# Altium schematic symbol library AU0005.SCHLIB: 67 symbols (part 1 of 2)
Pins are listed as number, name and electrical type; pins without a type are passive.

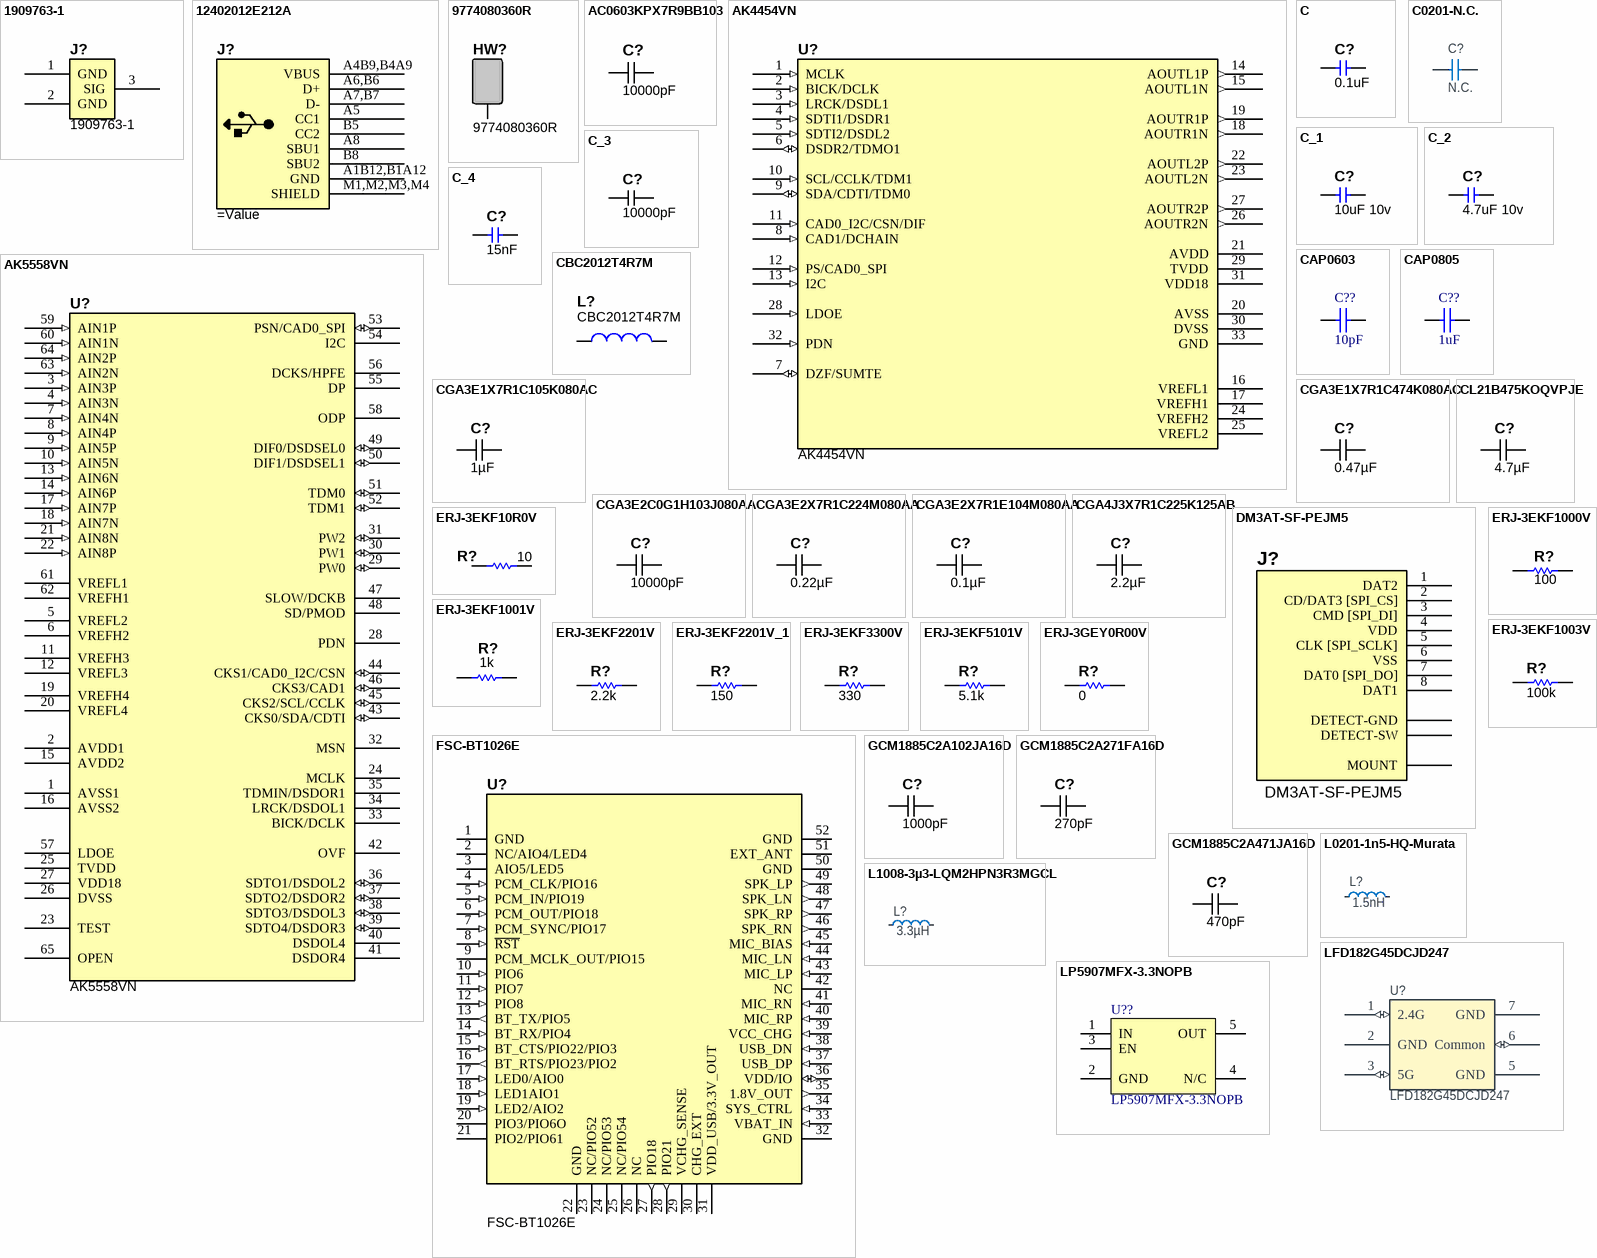
[diagram p0: symbols 1909763-1 to LP5907MFX-3.3NOPB]

## 1909763-1
designator J?
CONN UMCC JACK STR 50OHM SMD; Manufacturer: TE Connectivity AMP Connectors; Connector Style: Ultra Miniature Coaxial; Connector Type: Jack, Male Pin; Contact Termination: Solder; Body Material: Copper Alloy; Body Finish: Gold; Dielectric Material: Liquid Crystal Polymer (LCP); Voltage Rating: 60V; Mating Cycles: 30; Insertion Loss: 0.24dB; Value: 1909763-1; Supplier 1: Digi-Key; Supplier Part Number 1: A118077CT-ND; Manufacturer Part Number: 1909763-1; RoHS: RoHS Compliant; Category: Connectors, Interconnects; Stock 1: 75031; Pricing 1: 1=0.49, 10=0.462, 25=0.416, 50=0.3696, 100=0.3542, 250=0.3234, 500=0.308, 1000=0.2541, 2500=0.231 (USD); Packaging: Cut Tape (CT); Part Status: Active; Shield Termination: Solder; Impedance: 50 Ohm; Mounting Type: Surface Mount; Mounting Feature: -; Cable Group: -; Fastening Type: Snap-On; Features: -; Housing Color: Ivory; Ingress Protection: -; Includes: -; Center Contact Plating: Gold; Operating Temperature: -40°C ~ 90°C; Center Contact Material: Copper Alloy; ComponentLink1URL: http://www.te.com/commerce/DocumentDelivery/DDEController?Action=srchrtrv&DocNm=1909763&DocType=Customer+Drawing&DocLang=English; ComponentLink1Description: http://www.te.com/commerce/DocumentDelivery/DDEController?Action=srchrtrv&DocNm=1909763&DocType=Customer+Drawing&DocLang=English
footprint 1909763-1 (CONN UMCC JACK STR 50OHM SMD)
pins: 1 GND, 2 GND, 3 SIG

## 12402012E212A
designator J?
Manufacturer: Amphenol; Manufacturer Part Number: 12402012E212A; Supplier 1: Mouser; Supplier Part Number 1: 523-12402012E212A; RoHS: No; Category: Connectors; Stock 1: 6869; Pricing: 1=0.98000, 10=0.77400, 50=0.77400, 100=0.67300, 1000=0.53800, 10000=0.43700 (USD)
footprint 12402012E212A (USB-C  2.0)
pins: A1B12,B1A12 GND, A4B9,B4A9 VBUS, A5 CC1, A6,B6 D+, A7,B7 D-, A8 SBU1, B5 CC2, B8 SBU2, M1,M2,M3,M4 SHIELD

## 9774080360R
designator HW?
WURTH ELEKTRONIK   9774080360R   Standoff, Tin Plated, Steel, Round Female, M3, 8 mm, 8 mm; Manufacturer: Wurth Electronics; Threaded/Unthreaded: Threaded; Outside Diameter: 0.236inch; Value: 9774080360R; Manufacturer Part Number: 9774080360R; Supplier 1: Digi-Key; Supplier Part Number 1: 732-5275-1-ND; Stock 1: 7200; Pricing 1: 1=1.65, 10=1.523, 50=1.411, 100=1.21 (USD); Mount: External; Case/Package: SMD/SMT; Material: Steel; Plating: Tin; Length: 0.37inch; Thread Size: M3; Width: 6mm; REACH SVHC: Unknown; ComponentLink1URL: http://www.mouser.com/ds/2/445/9774080360R-336037.pdf; ComponentLink1Description: http://www.mouser.com/ds/2/445/9774080360R-336037.pdf; ComponentLink2URL: http://www.farnell.com/datasheets/1840152.pdf; ComponentLink2Description: http://www.farnell.com/datasheets/1840152.pdf; ComponentLink3URL: https://media.digikey.com/pdf/Data%20Sheets/Wurth%20Electronics%20PDFs/WA-SMSx_Performance_Flyer.pdf; ComponentLink3Description: https://media.digikey.com/pdf/Data%20Sheets/Wurth%20Electronics%20PDFs/WA-SMSx_Performance_Flyer.pdf
footprint 9774080360R (ROUND STANDOFF M3X0.5 STEEL 8MM)
footprint 9774080360R - NARROW (ROUND STANDOFF M3X0.5 STEEL 8MM)
pins: M

## AC0603KPX7R9BB103
designator C?, comment 10000pF
CAP CER 10000PF 50V X7R 0603; Manufacturer Part Number: AC0603KPX7R9BB103; Manufacturer: Yageo; Tolerance: ±10%; Substitution Notes: 10000pF , 50V , ±10% , X7R , -55°C ~ 125°C , AEC-Q200 , 0603; Value: 10000pF; Temperature Coefficient: X7R; ComponentLink1Description: Datasheet (Internal); ComponentLink1URL: datasheets\Yageo\yageo_ac.pdf; ComponentLink2Description: Datasheet (External); ComponentLink2URL: http://www.yageo.com/NewPortal/yageodocoutput?fileName=/pdf/MLCC/UPY-AC_NP0X7R_16V-to-630V_9.pdf; Supplier 1: Digikey; Supplier Part Number 1: 311-3284-1-ND; Category: Capacitors; Voltage - Rated: 50V; Operating Temperature: -55°C ~ 125°C; Ratings: AEC-Q200; Package: 0603; Thickness (Max): 0.90MM
footprint C0603_0.90MM_HD (Capacitor 0603 - High Density)
footprint C0603_0.90MM_MD
footprint C0603_0.90MM_LD
pins: 1, 2 1

## AK4454VN
designator U?
115dB 768kHz / 32-bit 8 ch Premium DAC; Manufactuer: AKM; Manufacturer Part Number: AK4454VN; Value: AK4454VN
footprint QFN32_AKM
pins: 1 MCLK (in), 2 BICK/DCLK (in), 3 LRCK/DSDL1 (in), 4 SDTI1/DSDR1 (in), 5 SDTI2/DSDL2 (in), 6 DSDR2/TDMO1 (io), 7 DZF/SUMTE (io), 8 CAD1/DCHAIN (in), 9 SDA/CDTI/TDM0 (io), 10 SCL/CCLK/TDM1 (in), 11 CAD0_I2C/CSN/DIF (in), 12 PS/CAD0_SPI (in), 13 I2C (in), 14 AOUTL1P (out), 15 AOUTL1N (out), 16 VREFL1 (power), 17 VREFH1 (power), 18 AOUTR1N (out), 19 AOUTR1P (out), 20 AVSS, 21 AVDD (power), 22 AOUTL2P (out), 23 AOUTL2N (out), 24 VREFH2 (power), 25 VREFL2 (power), 26 AOUTR2N (out), 27 AOUTR2P (out), 28 LDOE (in), 29 TVDD (power), 30 DVSS, 31 VDD18 (power), 32 PDN (in), 33 GND

## AK5558VN
designator U?
IC ADC, Audio 32 bit 768k DSD, PCM 64-QFN (9x9); Manufacturer: AKM/Asahi Kasei Microdevices; Manufacturer Part Number: AK5558VN; Type: DEV; Category: ADCs/DACs - Special Purpose; Supplier Device Package: 64-QFN (9x9); Mounting Type: Surface Mount
footprint AK5558VN (IC ADC, Audio 32 bit 768k DSD, PCM 64-QFN (9x9))
pins: 1 AVSS1, 2 AVDD1 (power), 3 AIN3P (in), 4 AIN3N (in), 5 VREFL2 (power), 6 VREFH2 (power), 7 AIN4N (in), 8 AIN4P (in), 9 AIN5P (in), 10 AIN5N (in), 11 VREFH3 (power), 12 VREFL3 (power), 13 AIN6N (in), 14 AIN6P (in), 15 AVDD2 (power), 16 AVSS2, 17 AIN7P (in), 18 AIN7N (in), 19 VREFH4 (power), 20 VREFL4 (power), 21 AIN8N (in), 22 AIN8P (in), 23 TEST, 24 MCLK, 25 TVDD (power), 26 DVSS, 27 VDD18 (power), 28 PDN, 29 PW0 (io), 30 PW1 (io), 31 PW2 (io), 32 MSN, 33 BICK/DCLK, 34 LRCK/DSDOL1, 35 TDMIN/DSDOR1, 36 SDTO1/DSDOL2 (io), 37 SDTO2/DSDOR2 (io), 38 SDTO3/DSDOL3 (io), 39 SDTO4/DSDOR3 (io), 40 DSDOL4, 41 DSDOR4, 42 OVF, 43 CKS0/SDA/CDTI (io), 44 CKS1/CAD0_I2C/CSN (io), 45 CKS2/SCL/CCLK (io), 46 CKS3/CAD1 (io), 47 SLOW/DCKB, 48 SD/PMOD, 49 DIF0/DSDSEL0 (io), 50 DIF1/DSDSEL1 (io), 51 TDM0 (io), 52 TDM1 (io), 53 PSN/CAD0_SPI (io), 54 I2C, 55 DP, 56 DCKS/HPFE, 57 LDOE, 58 ODP, 59 AIN1P (in), 60 AIN1N (in), 61 VREFL1 (power), 62 VREFH1 (power), 63 AIN2N (in), 64 AIN2P (in), 65 OPEN

## C
designator C?, comment 0.1uF
Substiution Notes: 0.1uFpF, 10V, 0603, AECQ-200; Value: 0.1uF; Manufacturer: *; Manufacturer Part Number: *
footprint PERFECT_0402 (https://www.worthingtonassembly.com/perfect-0402-footprint)
footprint C0603_0.50mm_MD (Capacitor 0603 - Medium Density)
pins: 1, 2

## C0201-N.C.
designator C?, comment N.C.
Not mounted; Part Number: C0201-N.C.; Manufacturer: N.A.; Part number NEMS: 100200001; Note: Chip Cap; Assembly: Not mounted; Pad Count: 2; Component Status: Active; Manufacturer Part Number: N.A.; LatestRevisionDate: 2014-11-13; Published: 2014-11-13; Value: N.C.; Artikkelnr Noca: N.A.; Footprint Doc: 0201; Part number IPS: N.A.; ComponentLink1URL: N.A.; ComponentLink1Description: Datasheet; ComponentLink2URL: N.A.; ComponentLink2Description: Supplier link; HelpURL: N.A.; Supplier 1: N.A.; Supplier Part Number 1: N.A.; Supplier 2: N.A.; Supplier Part Number 2: N.A.; Component Class: Capacitors; PartId: 100200001; Author: rsk; Part number Norautron: N.A.
footprint CAPC0603X03L_C_NC (Chip Capacitor, 2-Leads, Body 0.6x0.3mm, IPC High Density)
pins: 1, 2

## C_1
designator C?, comment 10uF 10v
Value: 10000pF; Manufacturer: *; Manufacturer Part Number: *; Substiution Notes: *
footprint PERFECT_0402 (https://www.worthingtonassembly.com/perfect-0402-footprint)
footprint C0603_0.50mm_MD (Capacitor 0603 - Medium Density)
footprint C0805_0.70MM_MD (Capacitor - 0805 - Medium Density)
pins: 1, 2

## C_2
designator C?, comment 4.7uF 10v
Value: 10000pF; Manufacturer: *; Manufacturer Part Number: *; Substiution Notes: *
footprint PERFECT_0402 (https://www.worthingtonassembly.com/perfect-0402-footprint)
footprint C0603_0.50mm_MD (Capacitor 0603 - Medium Density)
footprint C0805_0.70MM_MD (Capacitor - 0805 - Medium Density)
pins: 1, 2

## C_3
designator C?, comment 10000pF
Value: 10000pF; Manufacturer: *; Manufacturer Part Number: *; Substiution Notes: *
footprint PERFECT_0402 (https://www.worthingtonassembly.com/perfect-0402-footprint)
footprint C0603_0.50mm_MD (Capacitor 0603 - Medium Density)
footprint C0805_0.70MM_MD (Capacitor - 0805 - Medium Density)
pins: 1, 2

## C_4
designator C?, comment 15nF
Value: 0.1uF; Substiution Notes: 0.1uFpF, 10V, 0603, AECQ-200; Manufacturer: *; Manufacturer Part Number: *
footprint PERFECT_0402 (https://www.worthingtonassembly.com/perfect-0402-footprint)
footprint C0603_0.50mm_MD (Capacitor 0603 - Medium Density)
pins: 1, 2

## CAP0603
designator C??, comment Capacitance: 10pF  (hidden comment: CAP GENERIC 0603)
footprint CAPC1608X08N (Chip Capacitor, 2-Leads, Body 1.60x0.80mm, IPC Medium Density)
pins: 1, 2

## CAP0805
designator C??, comment Capacitance: 1uF  (hidden comment: CAP GENERIC 0805)
footprint CAPC2012X09N (Chip Capacitor, 2-Leads, Body 2.00x1.25mm, IPC Medium Density)
pins: 1, 2

## CBC2012T4R7M
designator L?
FIXED IND 4.7UH 520MA 650 MOHM; Manufacturer: Taiyo Yuden; Core Material: Ferrite; Tolerance: 20%; Self Resonant Frequency: 45MHz; DC Resistance (DCR): 650mR; Test Frequency: 7.96MHz; Saturation Current: 360mA; Shielding: Unshielded; Value: CBC2012T4R7M; Supplier 1: Digi-Key; Manufacturer Part Number: CBC2012T4R7M; Stock 1: 7720; Pricing 1: 1=0.24000, 10=0.21600, 100=0.14860, 500=0.12702, 1000=0.09729 (USD); RoHS: Yes; Mount: Surface Mount; Case/Package: 0805; Number of Pins: 2; Case Code (Metric): 2012; Case Code (Imperial): 0805; Min Operating Temperature: -40°C; Max Operating Temperature: 105°C; Packaging: Tape and Reel; Inductance: 4.7uH; Max DC Current: 520mA; Termination: SMD/SMT; Inductance Tolerance: 20%; Package Quantity: 3000; Current Rating: 520mA; Composition: Wirewound; Length: 0.079inch; Height: 1.25mm; Width: 0.049inch; Height - Seated (Max): 0.057inch; REACH SVHC: No SVHC; Lead Free: Exempt; Halogen Free: Halogen Free; ComponentLink1URL: https://datasheet.ciiva.com/15981/214cbc2012t4r7m-15981637.pdf?src-supplier=Onlinecomponents.com; ComponentLink1Description: https://datasheet.ciiva.com/15981/214cbc2012t4r7m-15981637.pdf?src-supplier=Onlinecomponents.com; ComponentLink2URL: https://datasheet.ciiva.com/1040/cbc2012t4r7m-ss-1040456.pdf?src-supplier=Digi-Key; ComponentLink2Description: https://datasheet.ciiva.com/1040/cbc2012t4r7m-ss-1040456.pdf?src-supplier=Digi-Key; ComponentLink3URL: https://datasheet.ciiva.com/8505/cbc2012t4r7m-ss-8505656.pdf?src-supplier=Avnet; ComponentLink3Description: https://datasheet.ciiva.com/8505/cbc2012t4r7m-ss-8505656.pdf?src-supplier=Avnet; ComponentLink4URL: https://datasheet.ciiva.com/8001/wound02-e-8001849.pdf?src-supplier=Element14; ComponentLink4Description: https://datasheet.ciiva.com/8001/wound02-e-8001849.pdf?src-supplier=Element14; Supplier Part Number 1: 587-1602-1-ND
footprint C0805_1.45MM_MD (Capacitor - 0805 - Medium Density)
pins: 1, 2

## CGA3E1X7R1C105K080AC
designator C?, comment 1µF
CAP CER 1UF 16V X7R 0603; Manufacturer Part Number: CGA3E1X7R1C105K080AC; Manufacturer: TDK Corporation; Tolerance: ±10%; Substitution Notes: 1µF , 16V , ±10% , X7R , -55°C ~ 125°C , AEC-Q200 , 0603; Value: 1µF; Temperature Coefficient: X7R; ComponentLink1Description: Datasheet (Internal); ComponentLink1URL: datasheets\TDK\mlcc_automotive_general_en.pdf; ComponentLink2Description: Datasheet (External); ComponentLink2URL: https://product.tdk.com/info/en/catalog/datasheets/mlcc_automotive_general_en.pdf; Supplier 1: Digikey; Supplier Part Number 1: 445-12539-1-ND; Category: Capacitors; Voltage - Rated: 16V; Features: -; Operating Temperature: -55°C ~ 125°C; Ratings: AEC-Q200; Package: 0603; Thickness (Max): 0.90MM
footprint C0603_0.90MM_MD
footprint C0603_0.90MM_HD
footprint C0603_0.90MM_LD
pins: 1, 2 1

## CGA3E1X7R1C474K080AC
designator C?, comment 0.47µF
CAP CER 0.47UF 16V X7R 0603; Manufacturer Part Number: CGA3E1X7R1C474K080AC; Manufacturer: TDK Corporation; Tolerance: ±10%; Substitution Notes: 0.47µF , 16V , ±10% , X7R , -55°C ~ 125°C , AEC-Q200 , 0603; Value: 0.47µF; Temperature Coefficient: X7R; ComponentLink1Description: Datasheet (Internal); ComponentLink1URL: datasheets\TDK\mlcc_automotive_general_en.pdf; ComponentLink2Description: Datasheet (External); ComponentLink2URL: https://product.tdk.com/info/en/catalog/datasheets/mlcc_automotive_general_en.pdf; Supplier 1: Digikey; Supplier Part Number 1: 445-5672-1-ND; Category: Capacitors; Voltage - Rated: 16V; Features: -; Operating Temperature: -55°C ~ 125°C; Ratings: AEC-Q200; Package: 0603; Thickness (Max): 0.90MM
footprint C0603_0.90MM_MD
footprint C0603_0.90MM_HD
footprint C0603_0.90MM_LD
pins: 1, 2 1

## CGA3E2C0G1H103J080AA
designator C?, comment 10000pF
CAP CER 10000PF 50V C0G 0603; Manufacturer Part Number: CGA3E2C0G1H103J080AA; Manufacturer: TDK Corporation; Temperature Coefficient: C0G, NP0; Tolerance: ±5%; Substitution Notes: 10000pF , 50V , ±5% , C0G, NP0 , -55°C ~ 125°C , AEC-Q200 , 0603; Value: 10000pF; ComponentLink1Description: Datasheet (Internal); ComponentLink1URL: datasheets\TDK\mlcc_automotive_general_en.pdf; ComponentLink2Description: Datasheet (External); ComponentLink2URL: https://product.tdk.com/info/en/catalog/datasheets/mlcc_automotive_general_en.pdf; Supplier 1: Digikey; Supplier Part Number 1: 445-6916-1-ND; Category: Capacitors; Voltage - Rated: 50V; Features: -; Operating Temperature: -55°C ~ 125°C; Ratings: AEC-Q200; Package: 0603; Thickness (Max): 0.90MM
footprint C0603_0.90MM_MD
footprint C0603_0.90MM_HD
footprint C0603_0.90MM_LD
pins: 1, 2 1

## CGA3E2X7R1C224M080AA
designator C?, comment 0.22µF
CAP CER 0.22UF 16V X7R 0603; Manufacturer Part Number: CGA3E2X7R1C224M080AA; Manufacturer: TDK Corporation; Tolerance: ±20%; Substitution Notes: 0.22µF , 16V , ±20% , X7R , -55°C ~ 125°C , AEC-Q200 , 0603; Value: 0.22µF; Temperature Coefficient: X7R; ComponentLink1Description: Datasheet (Internal); ComponentLink1URL: datasheets\TDK\mlcc_automotive_general_en.pdf; ComponentLink2Description: Datasheet (External); ComponentLink2URL: https://product.tdk.com/info/en/catalog/datasheets/mlcc_automotive_general_en.pdf; Supplier 1: Digikey; Supplier Part Number 1: 445-12535-1-ND; Category: Capacitors; Voltage - Rated: 16V; Features: -; Operating Temperature: -55°C ~ 125°C; Ratings: AEC-Q200; Package: 0603; Thickness (Max): 0.90MM
footprint C0603_0.90MM_MD
footprint C0603_0.90MM_HD
footprint C0603_0.90MM_LD
pins: 1, 2 1

## CGA3E2X7R1E104M080AA
designator C?, comment 0.1µF
CAP CER 0.1UF 25V X7R 0603; Manufacturer Part Number: CGA3E2X7R1E104M080AA; Manufacturer: TDK Corporation; Tolerance: ±20%; Substitution Notes: 0.1µF , 25V , ±20% , X7R , -55°C ~ 125°C , AEC-Q200 , 0603; Value: 0.1µF; Temperature Coefficient: X7R; ComponentLink1Description: Datasheet (Internal); ComponentLink1URL: datasheets\TDK\mlcc_automotive_general_en.pdf; ComponentLink2Description: Datasheet (External); ComponentLink2URL: https://product.tdk.com/info/en/catalog/datasheets/mlcc_automotive_general_en.pdf; Supplier 1: Digikey; Supplier Part Number 1: 445-12541-1-ND; Category: Capacitors; Voltage - Rated: 25V; Features: -; Operating Temperature: -55°C ~ 125°C; Ratings: AEC-Q200; Package: 0603; Thickness (Max): 0.90MM
footprint C0603_0.90MM_MD
footprint C0603_0.90MM_HD
footprint C0603_0.90MM_LD
pins: 1, 2 1

## CGA4J3X7R1C225K125AB
designator C?, comment 2.2µF
CAP CER 2.2UF 16V X7R 0805; Manufacturer Part Number: CGA4J3X7R1C225K125AB; Manufacturer: TDK Corporation; Tolerance: ±10%; Substitution Notes: 2.2µF , 16V , ±10% , X7R , -55°C ~ 125°C , AEC-Q200 , 0805; Value: 2.2µF; Temperature Coefficient: X7R; ComponentLink1Description: Datasheet (Internal); ComponentLink1URL: datasheets\TDK\mlcc_automotive_general_en.pdf; ComponentLink2Description: Datasheet (External); ComponentLink2URL: https://product.tdk.com/info/en/catalog/datasheets/mlcc_automotive_general_en.pdf; Supplier 1: Digikey; Supplier Part Number 1: 445-5691-1-ND; Category: Capacitors; Voltage - Rated: 16V; Features: -; Operating Temperature: -55°C ~ 125°C; Ratings: AEC-Q200; Package: 0805; Thickness (Max): 1.45MM
footprint C0805_1.45MM_MD
footprint C0805_1.45MM_HD
footprint C0805_1.45MM_LD
pins: 1, 2 1

## CL21B475KOQVPJE
designator C?, comment 4.7µF
CAP CER 4.7UF 16V X7R 0805; Manufacturer Part Number: CL21B475KOQVPJE; Manufacturer: Samsung Electro-Mechanics; Tolerance: ±10%; Substitution Notes: 4.7µF , 16V , -55°C ~ 125°C , X7R  , AEC-Q200 , 0805; Value: 4.7µF; Temperature Coefficient: X7R; ComponentLink1Description: Datasheet (Internal); ComponentLink1URL: datasheets\Samsung\CL05B153KB5VPNC.pdf.pdf; ComponentLink2Description: Datasheet (External); ComponentLink2URL: http://www.samsungsem.com/kr/support/product-search/mlcc/__icsFiles/afieldfile/2017/05/25/CL05B153KB5VPNC.pdf; Supplier 1: Digikey; Supplier Part Number 1: 1276-6793-1-ND; Category: Capacitors; Voltage - Rated: 16V; Features: -; Operating Temperature: -55°C ~ 125°C; Ratings: AEC-Q200; Package: 0805; Thickness (Max): 0.95MM
footprint C0805_0.95MM_MD
footprint C0805_0.95MM_HD
footprint C0805_0.95MM_LD
pins: 1, 2 1

## DM3AT-SF-PEJM5
designator J?
CONN MICRO SD R/A PUSH-PUSH SMD; Manufacturer: Hirose Electric Co Ltd; Card Type: Secure Digital - microSD™; Number of Positions: 10 (8 + 2); Connector Type: Connector and Ejector; Insertion, Removal Method: Push In, Push Out; Supplier 1: Digi-Key; Supplier Part Number 1: HR1964CT-ND; Manufacturer Part Number: DM3AT-SF-PEJM5; RoHS: RoHS Compliant; Category: Connectors, Interconnects; Stock: 28699; Pricing: 1=2.83, 10=2.72, 25=2.4932, 50=2.3798, 100=2.2664, 250=1.98312, 500=1.92648 (USD); Packaging: Cut Tape (CT); Ejector Side: -; Mounting Type: Surface Mount, Right Angle; Features: Switch; Height Above Board: 0.066" (1.68mm); Mounting Feature: Normal, Standard - Top; Contact Finish: Gold; Contact Finish Thickness: -; ComponentLink1URL: http://www.hirose.co.jp/cataloge_hp/e60900232.pdf; ComponentLink1Description: http://www.hirose.co.jp/cataloge_hp/e60900232.pdf; Value: DM3AT-SF-PEJM5
footprint DM3AT-SF-PEJM5 (Hirose DM3AT-SF-PEJM5 uSD connector - Normal Mount)
pins: 1 DAT2, 2 CD/DAT3 [SPI_CS], 3 CMD [SPI_DI], 4 VDD, 5 CLK [SPI_SCLK], 6 VSS, 7 DAT0 [SPI_DO], 8 DAT1, CDA DETECT-GND, CDB DETECT-SW, M MOUNT
1 alternate drawing of the same symbol

## ERJ-3EKF10R0V
designator R?, comment 10
RES 10 OHM 1/10W 1% 0603 SMD; Manufacturer Part Number: ERJ-3EKF10R0V; Manufacturer: Panasonic Electronic Components; Package Power: 0603  (0.1W); Power (Watts): 0.1W- 1/10W; Temperature Coefficient: ±100ppm/°C; Limiting Element Voltage: 75; Maximum Overload Voltage: 150; Maximum Working Voltage: 1.0V; Substitution Notes: 10 , ±1% , 0603 , AEC-Q200; Value: 10; ComponentLink1Description: Internal Datasheet; ComponentLink1URL: datasheets\Panasonic Electronic Components\AOA0000CE2.pdf; ComponentLink2Description: External Datasheet; ComponentLink2URL: http://industrial.panasonic.com/www-data/pdf/AOA0000/AOA0000CE2.pdf; Supplier 1: Digi-Key; Supplier Part Number 1: P10.0HCT-ND; Category: Resistors; Resistance (Ohms): 10; Composition: Thick Film; Features: -; Tolerance: ±1%; Package: 0603 (1608 Metric); Supplier Package: 0603; Size / Dimension: 0.063" L x 0.031" W (1.60mm x 0.80mm); Height: 0.55MM; Number of Terminations: 2; Packaging: Cut Tape (CT); Sort Value: 10; Sort Value Package: 603_10; Ratings: AEC-Q200
footprint R0603_0.55MM_MD
footprint R0603_0.55MM_HD
footprint R0603_0.55MM_LD
pins: 1, 2

## ERJ-3EKF1000V
designator R?, comment 100
RES 100 OHM 1/10W 1% 0603 SMD; Manufacturer Part Number: ERJ-3EKF1000V; Manufacturer: Panasonic Electronic Components; Package Power: 0603  (0.1W); Power (Watts): 0.1W- 1/10W; Temperature Coefficient: ±100ppm/°C; Limiting Element Voltage: 75; Maximum Overload Voltage: 150; Maximum Working Voltage: 3.2V; Substitution Notes: 100 , ±1% , 0603 , AEC-Q200; Value: 100; ComponentLink1Description: Internal Datasheet; ComponentLink1URL: datasheets\Panasonic Electronic Components\AOA0000CE2.pdf; ComponentLink2Description: External Datasheet; ComponentLink2URL: http://industrial.panasonic.com/www-data/pdf/AOA0000/AOA0000CE2.pdf; Supplier 1: Digi-Key; Supplier Part Number 1: P100HCT-ND; Category: Resistors; Resistance (Ohms): 100; Composition: Thick Film; Features: -; Tolerance: ±1%; Package: 0603 (1608 Metric); Supplier Package: 0603; Size / Dimension: 0.063" L x 0.031" W (1.60mm x 0.80mm); Height: 0.55MM; Number of Terminations: 2; Packaging: Cut Tape (CT); Sort Value: 100; Sort Value Package: 603_100; Ratings: AEC-Q200
footprint R0603_0.55MM_MD
footprint R0603_0.55MM_HD
footprint R0603_0.55MM_LD
pins: 1, 2

## ERJ-3EKF1001V
designator R?, comment 1k
RES 1K OHM 1/10W 1% 0603 SMD; Manufacturer Part Number: ERJ-3EKF1001V; Manufacturer: Panasonic Electronic Components; Package Power: 0603  (0.1W); Power (Watts): 0.1W- 1/10W; Temperature Coefficient: ±100ppm/°C; Limiting Element Voltage: 75; Maximum Overload Voltage: 150; Maximum Working Voltage: 10.0V; Substitution Notes: 1k , ±1% , 0603 , AEC-Q200; Value: 1k; ComponentLink1Description: Internal Datasheet; ComponentLink1URL: datasheets\Panasonic Electronic Components\AOA0000CE2.pdf; ComponentLink2Description: External Datasheet; ComponentLink2URL: http://industrial.panasonic.com/www-data/pdf/AOA0000/AOA0000CE2.pdf; Supplier 1: Digi-Key; Supplier Part Number 1: P1.00KHCT-ND; Category: Resistors; Resistance (Ohms): 1k; Composition: Thick Film; Features: -; Tolerance: ±1%; Package: 0603 (1608 Metric); Supplier Package: 0603; Size / Dimension: 0.063" L x 0.031" W (1.60mm x 0.80mm); Height: 0.55MM; Number of Terminations: 2; Packaging: Cut Tape (CT); Sort Value: 1000; Sort Value Package: 603_1000; Ratings: AEC-Q200
footprint R0603_0.55MM_MD
footprint R0603_0.55MM_HD
footprint R0603_0.55MM_LD
pins: 1, 2

## ERJ-3EKF1003V
designator R?, comment 100k
RES 100K OHM 1/10W 1% 0603 SMD; Manufacturer Part Number: ERJ-3EKF1003V; Manufacturer: Panasonic Electronic Components; Package Power: 0603  (0.1W); Power (Watts): 0.1W- 1/10W; Temperature Coefficient: ±100ppm/°C; Limiting Element Voltage: 75; Maximum Overload Voltage: 150; Maximum Working Voltage: 75.0V; Substitution Notes: 100k , ±1% , 0603 , AEC-Q200; Value: 100k; ComponentLink1Description: Internal Datasheet; ComponentLink1URL: datasheets\Panasonic Electronic Components\AOA0000CE2.pdf; ComponentLink2Description: External Datasheet; ComponentLink2URL: http://industrial.panasonic.com/www-data/pdf/AOA0000/AOA0000CE2.pdf; Supplier 1: Digi-Key; Supplier Part Number 1: P100KHCT-ND; Category: Resistors; Resistance (Ohms): 100k; Composition: Thick Film; Features: -; Tolerance: ±1%; Package: 0603 (1608 Metric); Supplier Package: 0603; Size / Dimension: 0.063" L x 0.031" W (1.60mm x 0.80mm); Height: 0.55MM; Number of Terminations: 2; Packaging: Cut Tape (CT); Sort Value: 100000; Sort Value Package: 603_100000; Ratings: AEC-Q200
footprint R0603_0.55MM_MD
footprint R0603_0.55MM_HD
footprint R0603_0.55MM_LD
pins: 1, 2

## ERJ-3EKF2201V
designator R?, comment 2.2k
RES 2.2K OHM 1/10W 1% 0603 SMD; Manufacturer Part Number: ERJ-3EKF2201V; Manufacturer: Panasonic Electronic Components; Package Power: 0603  (0.1W); Power (Watts): 0.1W- 1/10W; Temperature Coefficient: ±100ppm/°C; Limiting Element Voltage: 75; Maximum Overload Voltage: 150; Maximum Working Voltage: 14.8V; Substitution Notes: 2.2k , ±1% , 0603 , AEC-Q200; Value: 2.2k; ComponentLink1Description: Internal Datasheet; ComponentLink1URL: datasheets\Panasonic Electronic Components\AOA0000CE2.pdf; ComponentLink2Description: External Datasheet; ComponentLink2URL: http://industrial.panasonic.com/www-data/pdf/AOA0000/AOA0000CE2.pdf; Supplier 1: Digi-Key; Supplier Part Number 1: P2.20KHCT-ND; Category: Resistors; Resistance (Ohms): 2.2k; Composition: Thick Film; Features: -; Tolerance: ±1%; Package: 0603 (1608 Metric); Supplier Package: 0603; Size / Dimension: 0.063" L x 0.031" W (1.60mm x 0.80mm); Height: 0.55MM; Number of Terminations: 2; Packaging: Cut Tape (CT); Sort Value: 2200; Sort Value Package: 603_2200; Ratings: AEC-Q200
footprint R0603_0.55MM_MD
footprint R0603_0.55MM_HD
footprint R0603_0.55MM_LD
pins: 1, 2

## ERJ-3EKF2201V_1
designator R?, comment 150
RES 2.2K OHM 1/10W 1% 0603 SMD; Manufacturer Part Number: ERJ-3EKF2201V; Manufacturer: Panasonic Electronic Components; Package Power: 0603  (0.1W); Power (Watts): 0.1W- 1/10W; Temperature Coefficient: ±100ppm/°C; Limiting Element Voltage: 75; Maximum Working Voltage: 14.8V; Substitution Notes: 2.2k , ±1% , 0603 , AEC-Q200; Value: 2.2k; ComponentLink1Description: Internal Datasheet; ComponentLink1URL: datasheets\Panasonic Electronic Components\AOA0000CE2.pdf; ComponentLink2Description: External Datasheet; ComponentLink2URL: http://industrial.panasonic.com/www-data/pdf/AOA0000/AOA0000CE2.pdf; Supplier 1: Digi-Key; Supplier Part Number 1: P2.20KHCT-ND; Category: Resistors; Resistance (Ohms): 2.2k; Composition: Thick Film; Features: -; Tolerance: ±1%; Package: 0603 (1608 Metric); Supplier Package: 0603; Size / Dimension: 0.063" L x 0.031" W (1.60mm x 0.80mm); Height: 0.55MM; Number of Terminations: 2; Packaging: Cut Tape (CT); Sort Value: 2200; Sort Value Package: 603_2200; Maximum Overload Voltage: 150; Ratings: AEC-Q200
footprint R0603_0.55MM_MD
footprint R0603_0.55MM_HD
footprint R0603_0.55MM_LD
pins: 1, 2

## ERJ-3EKF3300V
designator R?, comment 330
RES 330 OHM 1/10W 1% 0603 SMD; Manufacturer Part Number: ERJ-3EKF3300V; Manufacturer: Panasonic Electronic Components; Package Power: 0603  (0.1W); Power (Watts): 0.1W- 1/10W; Temperature Coefficient: ±100ppm/°C; Limiting Element Voltage: 75; Maximum Overload Voltage: 150; Maximum Working Voltage: 5.7V; Substitution Notes: 330 , ±1% , 0603 , AEC-Q200; Value: 330; ComponentLink1Description: Internal Datasheet; ComponentLink1URL: datasheets\Panasonic Electronic Components\AOA0000CE2.pdf; ComponentLink2Description: External Datasheet; ComponentLink2URL: http://industrial.panasonic.com/www-data/pdf/AOA0000/AOA0000CE2.pdf; Supplier 1: Digi-Key; Supplier Part Number 1: P330HCT-ND; Category: Resistors; Resistance (Ohms): 330; Composition: Thick Film; Features: -; Tolerance: ±1%; Package: 0603 (1608 Metric); Supplier Package: 0603; Size / Dimension: 0.063" L x 0.031" W (1.60mm x 0.80mm); Height: 0.55MM; Number of Terminations: 2; Packaging: Cut Tape (CT); Sort Value: 330; Sort Value Package: 603_330; Ratings: AEC-Q200
footprint R0603_0.55MM_MD
footprint R0603_0.55MM_HD
footprint R0603_0.55MM_LD
pins: 1, 2

## ERJ-3EKF5101V
designator R?, comment 5.1k
RES 5.1K OHM 1/10W 1% 0603 SMD; Manufacturer Part Number: ERJ-3EKF5101V; Manufacturer: Panasonic Electronic Components; Package Power: 0603  (0.1W); Power (Watts): 0.1W- 1/10W; Temperature Coefficient: ±100ppm/°C; Limiting Element Voltage: 75; Maximum Overload Voltage: 150; Maximum Working Voltage: 22.6V; Substitution Notes: 5.1k , ±1% , 0603 , AEC-Q200; Value: 5.1k; ComponentLink1Description: Internal Datasheet; ComponentLink1URL: datasheets\Panasonic Electronic Components\AOA0000CE2.pdf; ComponentLink2Description: External Datasheet; ComponentLink2URL: http://industrial.panasonic.com/www-data/pdf/AOA0000/AOA0000CE2.pdf; Supplier 1: Digi-Key; Supplier Part Number 1: P5.10KHCT-ND; Category: Resistors; Resistance (Ohms): 5.1k; Composition: Thick Film; Features: -; Tolerance: ±1%; Package: 0603 (1608 Metric); Supplier Package: 0603; Size / Dimension: 0.063" L x 0.031" W (1.60mm x 0.80mm); Height: 0.55MM; Number of Terminations: 2; Packaging: Cut Tape (CT); Sort Value: 5100; Sort Value Package: 603_5100; Ratings: AEC-Q200
footprint R0603_0.55MM_MD
footprint R0603_0.55MM_HD
footprint R0603_0.55MM_LD
pins: 1, 2

## ERJ-3GEY0R00V
designator R?, comment 0
RES 0.0 OHM 1/10W JUMP 0603 SMD; Manufacturer Part Number: ERJ-3GEY0R00V; Manufacturer: Panasonic Electronic Components; Package Power: 0603  (0.1W); Power (Watts): 0.1W- 1/10W; Tolerance: Jumper; Limiting Element Voltage: 75; Maximum Overload Voltage: 150; Maximum Working Voltage: 0.0V; Substitution Notes: 0 , Jumper , 0603 , AEC-Q200; Value: 0; ComponentLink1Description: Internal Datasheet; ComponentLink1URL: datasheets\Panasonic Electronic Components\AOA0000CE1.pdf; ComponentLink2Description: External Datasheet; ComponentLink2URL: http://industrial.panasonic.com/www-data/pdf/AOA0000/AOA0000CE1.pdf; Supplier 1: Digi-Key; Supplier Part Number 1: P0.0GCT-ND; Category: Resistors; Resistance (Ohms): 0; Composition: Thick Film; Features: -; Temperature Coefficient: -; Package: 0603 (1608 Metric); Supplier Package: 0603; Size / Dimension: 0.063" L x 0.031" W (1.60mm x 0.80mm); Height: 0.55MM; Number of Terminations: 2; Sort Value: 0; Sort Value Package: 603_0; Ratings: AEC-Q200
footprint R0603_0.55MM_MD
footprint R0603_0.55MM_HD
footprint R0603_0.55MM_LD
pins: 1, 2

## FSC-BT1026E
designator U?
Bluetooth 5.1 dual mode audio module; Manufacturer: FEASYCOM; Check_prices: https://www.feasycom.com/qcc3024-bluetooth-stero-audio-module; Website Link: https://www.feasycom.com/qcc3024-bluetooth-stero-audio-module; Price: https://www.feasycom.com/qcc3024-bluetooth-stero-audio-module; Availability: In Stock; Value: FSC-BT1026E; Purchase-URL: https://www.feasycom.com/qcc3024-bluetooth-stero-audio-module; Package: QCC3024; Manufacturer Part Number: FSC-BT1026E
footprint FSC-BT1026x
pins: 1 GND (power), 2 NC/AIO4/LED4 (power), 3 AIO5/LED5 (power), 4 PCM_CLK/PIO16 (in), 5 PCM_IN/PIO19 (in), 6 PCM_OUT/PIO18 (in), 7 PCM_SYNC/PIO17 (in), 8 ~{RST} (in), 9 PCM_MCLK_OUT/PIO15 (power), 10 PIO6 (in), 11 PIO7 (in), 12 PIO8 (in), 13 BT_TX/PIO5 (out), 14 BT_RX/PIO4 (in), 15 BT_CTS/PIO22/PIO3 (in), 16 BT_RTS/PIO23/PIO2 (out), 17 LED0/AIO0 (in), 18 LED1AIO1 (in), 19 LED2/AIO2 (in), 20 PIO3/PIO6O (power), 21 PIO2/PIO61 (power), 22 GND (power), 23 NC/PIO52 (power), 24 NC/PIO53 (power), 25 NC/PIO54 (power), 26 NC (power), 27 PIO18 (out), 28 PIO21 (out), 29 VCHG_SENSE (power), 30 CHG_EXT (power), 31 VDD_USB/3.3V_OUT (power), 32 GND (power), 33 VBAT_IN (in), 34 SYS_CTRL (in), 35 1.8V_OUT (out), 36 VDD/IO (io), 37 USB_DP (in), 38 USB_DN (in), 39 VCC_CHG (in), 40 MIC_RP (in), 41 MIC_RN (in), 42 NC (power), 43 MIC_LP (in), 44 MIC_LN (in), 45 MIC_BIAS (in), 46 SPK_RN (out), 47 SPK_RP (out), 48 SPK_LN (out), 49 SPK_LP (out), 50 GND (power), 51 EXT_ANT (power), 52 GND (power)

## GCM1885C2A102JA16D
designator C?, comment 1000pF
CAP CER 1000PF 100V C0G/NP0 0603; Manufacturer Part Number: GCM1885C2A102JA16D; Manufacturer: Murata Electronics; Temperature Coefficient: C0G, NP0; Tolerance: ±5%; Substitution Notes: 1000pF , 100V , ±5% , C0G, NP0 , -55°C ~ 125°C , AEC-Q200 , 0603; Value: 1000pF; ComponentLink1Description: Datasheet (Internal); ComponentLink1URL: https://psearch.en.murata.com/capacitor/product/GCM1885C2A102JA16%23.pdf; ComponentLink2Description: Datasheet (External); ComponentLink2URL: https://psearch.en.murata.com/capacitor/product/GCM1885C2A102JA16%23.pdf; Supplier 1: Digikey; Supplier Part Number 1: 490-4772-1-ND; Category: Capacitors; Voltage - Rated: 100V; Operating Temperature: -55°C ~ 125°C; Ratings: AEC-Q200; Package: 0603; Thickness (Max): 0.90MM
footprint C0603_0.90MM_MD
footprint C0603_0.90MM_HD
footprint C0603_0.90MM_LD
pins: 1, 2 1

## GCM1885C2A271FA16D
designator C?, comment 270pF
CAP CER 270PF 100V C0G/NP0 0603; Manufacturer Part Number: GCM1885C2A271FA16D; Manufacturer: Murata Electronics; Temperature Coefficient: C0G, NP0; Tolerance: ±1%; Substitution Notes: 270pF , 100V , ±1% , C0G, NP0 , -55°C ~ 125°C , AEC-Q200 , 0603; Value: 270pF; ComponentLink1Description: Datasheet (Internal); ComponentLink1URL: https://search.murata.co.jp/Ceramy/image/img/A01X/G101/ENG/GCM1885C2A271FA16-01.pdf; ComponentLink2Description: Datasheet (External); ComponentLink2URL: https://search.murata.co.jp/Ceramy/image/img/A01X/G101/ENG/GCM1885C2A271FA16-01.pdf; Supplier 1: Digikey; Supplier Part Number 1: 490-16410-1-ND; Category: Capacitors; Voltage - Rated: 100V; Operating Temperature: -55°C ~ 125°C; Ratings: AEC-Q200; Package: 0603; Thickness (Max): 0.90MM
footprint C0603_0.90MM_MD
footprint C0603_0.90MM_HD
footprint C0603_0.90MM_LD
pins: 1, 2 1

## GCM1885C2A471JA16D
designator C?, comment 470pF
CAP CER 470PF 100V C0G/NP0 0603; Manufacturer Part Number: GCM1885C2A471JA16D; Manufacturer: Murata Electronics; Temperature Coefficient: C0G, NP0; Tolerance: ±5%; Substitution Notes: 470pF , 100V , ±5% , C0G, NP0 , -55°C ~ 125°C , AEC-Q200 , 0603; Value: 470pF; ComponentLink1Description: Datasheet (Internal); ComponentLink1URL: https://www.murata.com/~/media/webrenewal/support/library/catalog/products/capacitor/mlcc/c03e.ashx?la=en-us; ComponentLink2Description: Datasheet (External); ComponentLink2URL: https://www.murata.com/~/media/webrenewal/support/library/catalog/products/capacitor/mlcc/c03e.ashx?la=en-us; Supplier 1: Digikey; Supplier Part Number 1: 490-4949-1-ND; Category: Capacitors; Voltage - Rated: 100V; Operating Temperature: -55°C ~ 125°C; Ratings: AEC-Q200; Package: 0603; Thickness (Max): 0.90MM
footprint C0603_0.90MM_MD
footprint C0603_0.90MM_HD
footprint C0603_0.90MM_LD
pins: 1, 2 1

## L0201-1n5-HQ-Murata
designator L?, comment 1.5nH
Inductor, 1000mA, ±0.1ｎH, 50mOhm; Part Number: L0201-1n5-HQ-Murata; Manufacturer: Murata; Manufacturer Part Number: LQP03HQ1N5B02; Part number NEMS: 100300202; Pad Count: 2; Note: -55°C ~ 125°C; Artikkelnr Noca: N.A.; Component Status: Active; PartId: 100300202; Component Class: Inductors; Author: rsk; ComponentLink1URL: https://search.murata.co.jp/Ceramy/image/img/P02/JELF243C-0021.pdf; ComponentLink1Description: Datasheet; ComponentLink2URL: N.A.; ComponentLink2Description: Supplier link; HelpURL: https://psearch.en.murata.com/inductor/product/LQP03HQ1N5B02%23.html; Footprint Doc: 0201; LatestRevisionDate: 2018-10-23; Published: 2018-10-23; Value: 1.5nH; Supplier 1: Digi-Key; Supplier Part Number 1: 490-13881-1-ND; Supplier 2: N.A.; Supplier Part Number 2: N.A.; Part number IPS: N.A.; Part number Norautron: N.A.
footprint INDC0603X03L_C (Chip Inductor, 2-Leads, Body 0.6x0.3mm, IPC High Density)
pins: 1, 2

## L1008-3µ3-LQM2HPN3R3MGCL
designator L?, comment 3.3µH
Inductor, 1A, ±20%, 200mOhm; Part Number: L1008-3µ3-LQM2HPN3R3MGCL; Manufacturer: Murata; Manufacturer Part Number: LQM2HPN3R3MGCL; Part number NEMS: 100300406; Pad Count: 2; Note: -55°C ~ 125°C; Artikkelnr Noca: N.A.; Component Status: Active; PartId: 100300406; Component Class: Inductors; Author: prbu; ComponentLink1URL: https://www.murata.com/en-sg/products/productdetail?partno=LQM2HPN3R3MGC%23; ComponentLink1Description: Datasheet; ComponentLink2URL: https://www.digikey.com/en/products/detail/murata-electronics/LQM2HPN3R3MGCL/4359129?s=N4IgTCBcDaIDIEUCyYASAFAcgZgEraQHEBhOEAXQF8g; ComponentLink2Description: Supplier link; HelpURL: https://www.murata.com/en-sg/products/productdetail?partno=LQM2HPN3R3MGC%23; Footprint Doc: 1008; LatestRevisionDate: 2022-01-20; Published: 2022-01-20; Value: 3.3µH; Supplier 1: Digi-Key; Supplier Part Number 1: 490-12070-1-ND; Supplier 2: N.A.; Supplier Part Number 2: N.A.; Part number IPS: N.A.; Part number Norautron: N.A.
footprint INDC2520X10N (Chip Inductor, 2-Leads, Body 2,50x2,00mm, IPC Medium Density)
pins: 1, 2

## LFD182G45DCJD247
designator U?, comment value LFD182G45DCJD247  (hidden comment: LFD_Diplexer)
Signal Conditioning 2.4GHz and 5GHz Diplexer; Manufacturer: Murata; Part number NEMS: 100800026; Pad Count: 6; Note: N.A.; Component Status: Active; Part Number: LFD182G45DCJD247; Component Class: Filters; Author: hany; Manufacturer Part Number: LFD182G45DCJD247; ComponentLink1URL: https://no.mouser.com/datasheet/2/281/1/LFD182G45DCJD247-2399435.pdf; ComponentLink1Description: Datasheet; ComponentLink2URL: N.A.; ComponentLink2Description: Supplier link; HelpURL: N.A.; Footprint Doc: CAF; LatestRevisionDate: 2021-10-06; Published: 2021-10-06; Supplier 1: Mouser; Supplier Part Number 1: 81-LFD182G45DCJD247; Supplier 2: N.A.; Supplier Part Number 2: N.A.; Artikkelnr Noca: N.A.; Part number IPS: N.A.; Part number Norautron: N.A.; PartId: 100800026
footprint CAF-50P160X80-6N (Chip Array, Flat, 6-Leads, Pitch 0,50mm,  Body 1,60x0,80mm,  IPC Medium Density)
pins: 1 2.4G (io), 2 GND (power), 3 5G (io), 5 GND (power), 6 Common (io), 7 GND (power)

## LP5907MFX-3.3NOPB
designator U??
IC REG LDO 3.3V 0.25A SOT23-5; Manufacturer: Texas Instruments; Manufacturer Part Number: LP5907MFX-3.3/NOPB; Number of Outputs: 1; Min Input Voltage: 2.2V; Max Supply Voltage: 5.5V; Max Output current: 250mA; Dropout Voltage: 250mV; Polarity: Positive; Quiescent Current: 25uA; Accuracy: 2%; Power Supply Rejection Ratio (PSRR): 60dB; Output Type: Fixed; Max Supply Current: 425uA; Supplier: Mouser; Supplier Part Number: 595-LP5907MFX-3.3NPB; RoHS: Yes; Category: Voltage Regulators - Linear; Stock: 178045; Pricing: 1=0.70000, 10=0.59300, 50=0.55300, 100=0.41100, 500=0.34800, 1000=0.26900, 3000=0.24400, 10000=0.24400 (USD); Mounting Technology: Surface Mount; Case/Package: SOT-23-5; Pins: 5; Contact Plating: Tin; Min Operating Temperature: -40°C; Max Operating Temperature: 125°C; Output Voltage: 3.3V; Packaging: Tape and Reel; Output Current: 250mA; Package Quantity: 3000; Number of Regulators: 1; Nominal Output Voltage: 3.3V; Output Voltage Accuracy: 2%; Series: -; Output Configuration: Positive; Radiation Hardening: No; Reach SVHC Compliant: Yes; Lead Free: Lead Free; RoHS Compliant: Yes; ComponentLink1URL: https://datasheet.ciiva.com/48475/lp5907-48475084.pdf?src-supplier=Avnet; ComponentLink1Description: https://datasheet.ciiva.com/48475/lp5907-48475084.pdf?src-supplier=Avnet; ComponentLink2URL: https://datasheet.ciiva.com/15083/lp5907-15083592.pdf?src-supplier=Digi-Key; ComponentLink2Description: https://datasheet.ciiva.com/15083/lp5907-15083592.pdf?src-supplier=Digi-Key
footprint SOT95P245X110-5N (SOT23, 5-Leads, Body 2.90x2.45mm, Pitch 0.95mm, IPC Medium Density)
pins: 1 IN, 2 GND, 3 EN, 4 N/C, 5 OUT

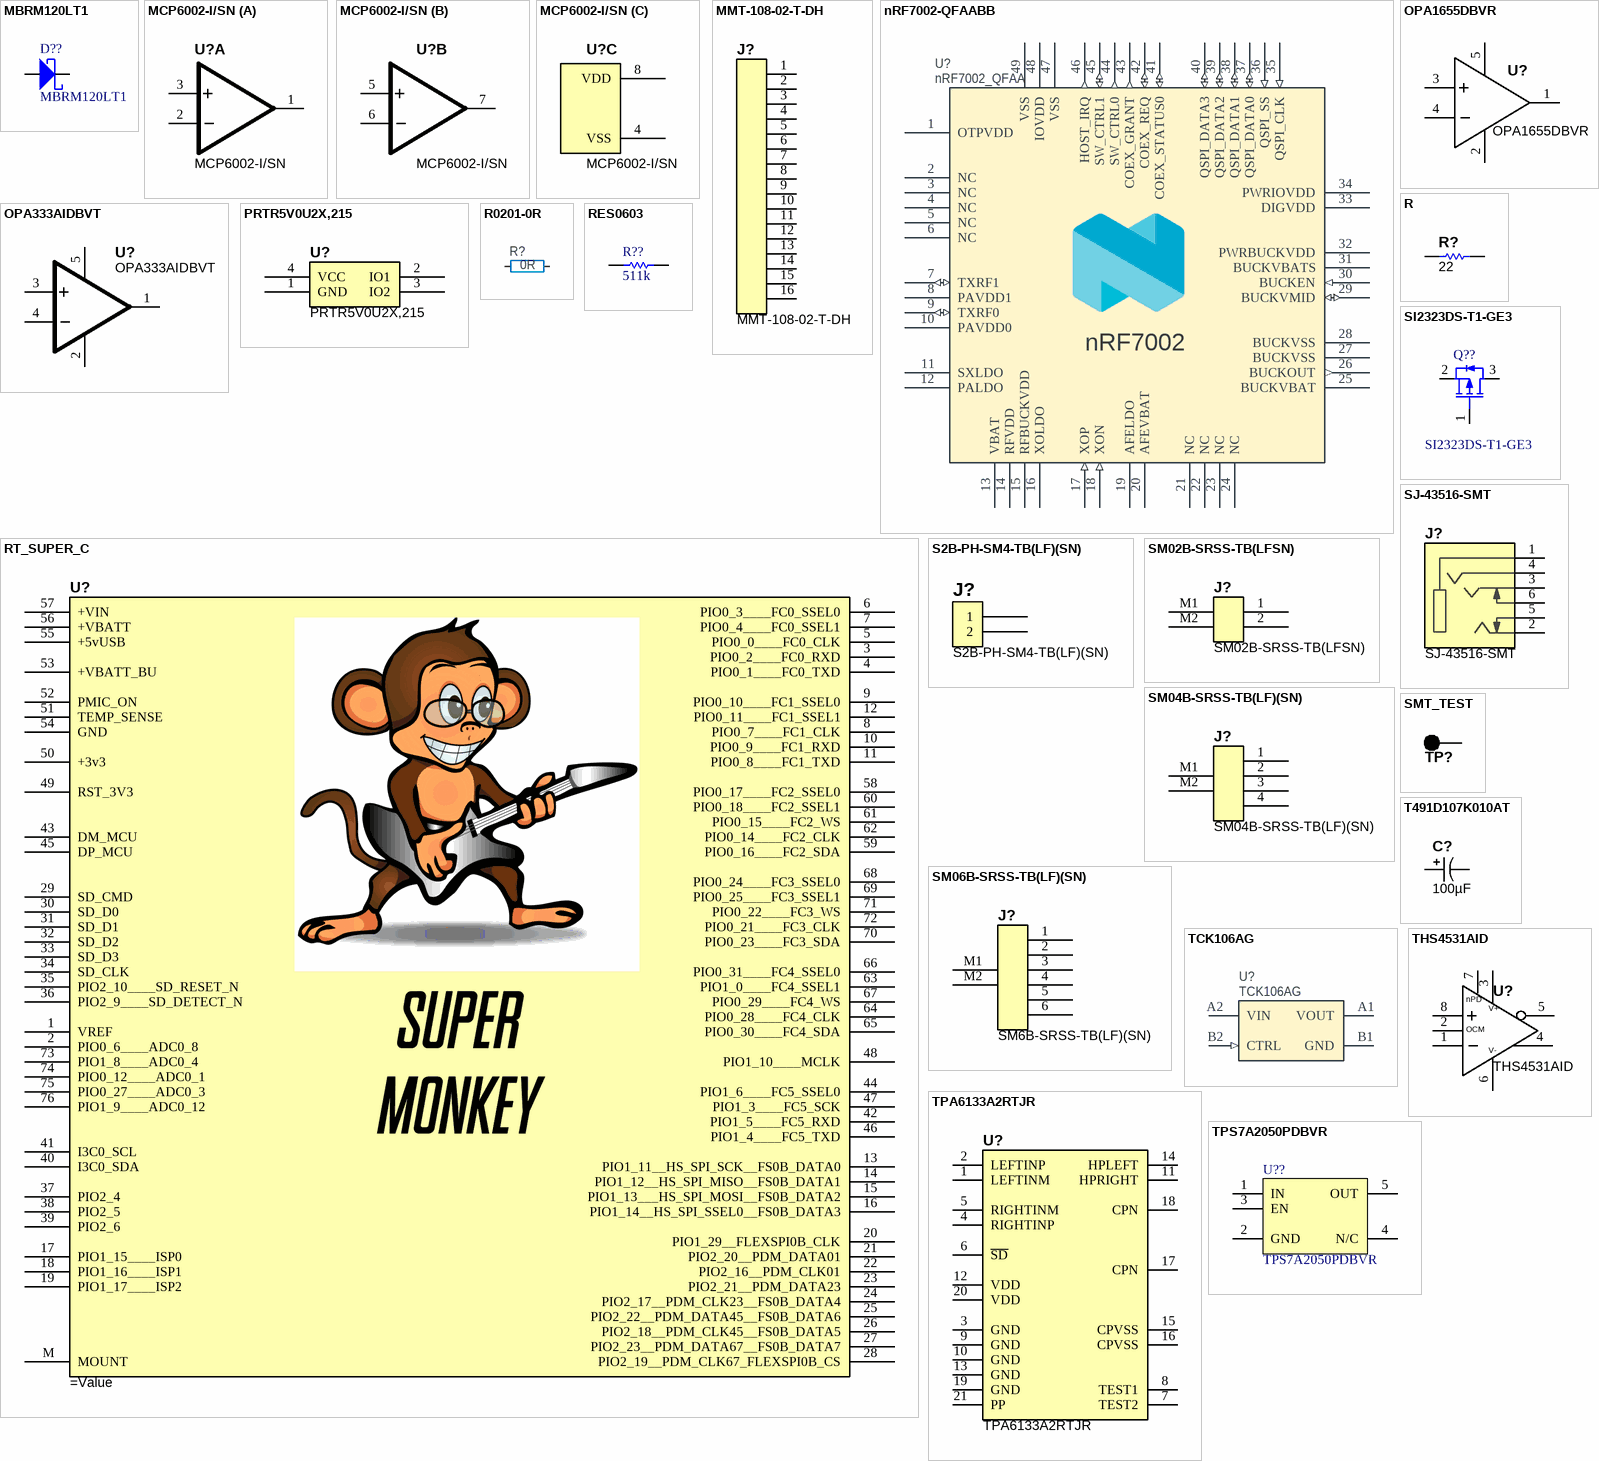
[diagram p1: symbols MBRM120LT1 to TPS7A2050PDBVR]

## MBRM120LT1
designator D??
Diode Schottky 20V 1A 2-Pin(1+Tab) Power Mite T/R; Manufacturer: ON Semiconductor; Max Surge Current: 50A; Max Reverse Leakage Current: 400uA; Element Configuration: Single; Polarity: Standard; Supplier: Avnet; Supplier Part Number: MBRM120LT1; Manufacturer Part Number: MBRM120LT1; RoHS: No; Category: Schottky Diodes; Stock: 15805; Pricing: 1233=0.30014, 1300=0.29203, 2500=0.28392, 6200=0.27581, 13000=0.26770, 62000=0.25958, 130000=0.25147 (USD); Case/Package: DO-216AA; Pins: 2; Min Operating Temperature: -55°C; Max Operating Temperature: 125°C; Package Quantity: 1; Packaging: Tape and Reel; Average Rectified Current: 1A; Max Forward Surge Current (Ifsm): 50A; Voltage Rating (DC): 20V; Current Rating: 1A; Output Current: 1A; Max Reverse Voltage (DC): 20V; Series: -; Lead Free: Contains Lead; RoHS Compliant: No; ComponentLink1URL: https://datasheet.ciiva.com/4719/mbrm120l-d-76548-4719640.pdf?src-supplier=Mouser; ComponentLink1Description: https://datasheet.ciiva.com/4719/mbrm120l-d-76548-4719640.pdf?src-supplier=Mouser
footprint PCBComponent_1
pins: 1 P, 2 K

## MCP6002-I/SN
designator U?
IC OPAMP 1.8V 1MHZ DUAL 8-SOIC; Manufacturer: Microchip Technology; Amplifier Type: General Purpose; Number of Circuits: 2; Output Type: Rail-to-Rail; Slew Rate: 0.6 V/µs; Current - Input Bias: 1pA; Voltage - Input Offset: 4.5mV; Current - Supply: 100µA; Current - Output / Channel: 23mA; Voltage - Supply, Single/Dual (±): 1.8 V ~ 6 V; Value: MCP6002-I/SN; Supplier 1: Digi-Key; Supplier Part Number 1: MCP6002-I/SN-ND; Manufacturer Part Number: MCP6002-I/SN; RoHS: RoHS Compliant; Category: Integrated Circuits (ICs); Stock 1: 45024; Pricing 1: 1=0.4, 10=0.33, 25=0.28, 100=0.25 (USD); Packaging: Tube; Gain Bandwidth Product: 1MHz; -3db Bandwidth: -; Operating Temperature: -40°C ~ 85°C; Mounting Type: Surface Mount; Package / Case: 8-SOIC (0.154", 3.90mm Width); Supplier Device Package: 8-SOIC N; ComponentLink1URL: http://ww1.microchip.com/downloads/en/DeviceDoc/21733j.pdf; ComponentLink1Description: http://ww1.microchip.com/downloads/en/DeviceDoc/21733j.pdf
footprint SOIC 8
part A pins: 1 OUT, 2 -, 3 +
part B pins: 5 +, 6 -, 7 OUT
part C pins: 4 VSS, 8 VDD

## MMT-108-02-T-DH
designator J?
SAMTEC         MMT-108-02-T-DH             Board-To-Board Connector, MMT Series, 12 Contacts, Header, 2 mm, Surface Mount, 2 Rows; Number of Contacts: 12; Gender: Male; Pitch: 2mm; Value: MMT-108-02-T-DH; Manufacturer: Samtec; Manufacturer Part Number: MMT-108-02-T-DH; Stock 1: 0; Pricing 1: 1=1.83 (USD); Contact Plating: Nickel,Tin; Contact Material: Bronze; Housing Colour: Black; Housing Material: Polymer; Min Operating Temperature: -55°C; Max Operating Temperature: 105°C; Number of Rows: 2; Packaging: Bulk; Termination: Solder; Orientation: Right Angle; Length: 12mm; Depth: 12.67mm; Radiation Hardening: No; REACH SVHC: No SVHC; ComponentLink1URL: http://www.farnell.com/datasheets/1796420.pdf; ComponentLink1Description: http://www.farnell.com/datasheets/1796420.pdf; ComponentLink2URL: http://components.arrow.com/part/dataview/40189258S9202960N1004; ComponentLink2Description: http://components.arrow.com/part/dataview/40189258S9202960N1004; ComponentLink3URL: http://www.samtec.com/documents/webfiles/pdf/MMT_SM.PDF; ComponentLink3Description: http://www.samtec.com/documents/webfiles/pdf/MMT_SM.PDF
footprint MMT-108-02-T-DH
pins: 1, 2, 3, 4, 5, 6, 7, 8, 9, 10, 11, 12, 13, 14, 15 5, 16

## nRF7002-QFAABB
designator U?, comment nRF7002_QFAA
Wifi Dual Band Companion chip; Part Number: nRF7002-QFAABB; Manufacturer: Nordic Semiconductor; Component Status: Active; Pad Count: 49; Note: N.A.; Component Class: nRF_Devices; Author: hany; Manufacturer Part Number: nRF7002-QFAABB; ComponentLink1URL: N.A.; ComponentLink1Description: Datasheet; ComponentLink2URL: N.A.; ComponentLink2Description: Supplier link; HelpURL: N.A.; LatestRevisionDate: 2022-12-01; Published: 2022-12-01; Footprint Doc: QFN-48; Value: nRF7002; Supplier 1: Nordic Semiconductor; Supplier Part Number 1: nRF7002-QFAABB; Supplier 2: N.A.; Supplier Part Number 2: N.A.; Artikkelnr Noca: N.A.; Part number IPS: N.A.; Part number Norautron: N.A.
footprint QFN40P600X600X60-48N (QFN, 48-Leads, Body 6.1x6.1mm (max), Pitch 0.40mm, IPC Medium Density)
pins: 1 OTPVDD (power) "OTP write mode supply,  (2.25-2.75V)", 2 NC, 3 NC, 4 NC, 5 NC, 6 NC, 7 TXRF1 (io) "RF INOUT ,", 8 PAVDD1 (power) "Supply ,  (3.3V)", 9 TXRF0 (io) "RF INOUT ,", 10 PAVDD0 (power) "Supply ,  (3.3V)", 11 SXLDO (power) "Supply ,  (1.2V)", 12 PALDO (power) "Supply ,  (3.3V)", 13 VBAT (power) "Supply ,  (2.5-4.5V)", 14 RFVDD (power) "Supply ,  (1.8V)", 15 RFBUCKVDD (power) "Supply ,  (1.5V)", 16 XOLDO (power) "Supply ,  (1.2V)", 17 XOP (in) "40MHz crystal ,", 18 XON (in) "40MHz crystal ,", 19 AFELDO (power) "Supply ,  (1.8V)", 20 AFEVBAT (power) "Supply ,  (2.5-4.5V)", 21 NC, 22 NC, 23 NC, 24 NC, 25 BUCKVBAT (power) "Supply ,  (2.5-4.5V)", 26 BUCKOUT (out) "DCDC output", 27 BUCKVSS (power) "DCDC GND", 28 BUCKVSS (power) "DCDC GND", 29 BUCKVMID (io) "Voltage reference decoupling pin ,", 30 BUCKEN (in) "PWR IP enable pin ,", 31 BUCKVBATS (power) "Supply ,  (2.5-4.5V)", 32 PWRBUCKVDD (power) "Supply ,  (1.5V)", 33 DIGVDD (power) "Supply ,  (1.1V)", 34 PWRIOVDD (power) "internal IO supply, may be used for OTP read,  (1.8-3.3 V)", 35 QSPI_CLK (in) "QSPI Clock", 36 QSPI_SS (in) "QSPI  Slave select", 37 QSPI_DATA0 (io) "QSPI data 0/MOSI", 38 QSPI_DATA1 (io) "QSPI data 1/MISO", 39 QSPI_DATA2 (io) "QSPI data 2/NC", 40 QSPI_DATA3 (io) "QSPI data 3/NC", 41 COEX_STATUS0 (io) "Coex interface, DIGMON1 (O) / GPIO1 (O)", 42 COEX_REQ (io) "Coex interface, DIGMON0 (O) / GPIO0 (O)", 43 COEX_GRANT (out) "Coex interface, GPIO2 (O)", 44 SW_CTRL0 (out) "external switch control , GPIO3 (O)", 45 SW_CTRL1 (io) "external switch control , GPIO4 (O) / BT_COEX_STATUS1 (I)", 46 HOST_IRQ (out) "Host processor interrupt request , GPIO5 (O)", 47 VSS "Connect to GND", 48 IOVDD (power) "IO supply ,  (1.8-3.3 V)", 49 VSS (power) "Center Pad"

## OPA333AIDBVT
designator U?
IC OPAMP 1.8V 0-DRIFT SOT23-5; Manufacturer: Texas Instruments; Manufacturer Part Number: OPA333AIDBVR; Amplifier Type: Zero-Drift; Number of Circuits: 1; Output Type: Rail-to-Rail; Slew Rate: 0.16 V/µs; Gain Bandwidth Product: 350kHz; Current - Input Bias: 70pA; Voltage - Input Offset: 2µV; Current - Supply: 17µA; Current - Output / Channel: 5mA; Voltage - Supply, Single/Dual (±): 1.8 V ~ 5.5 V, ±0.9 V ~ 2.75 V; Supplier 1: Digi-Key; Supplier Part Number 1: 296-26269-1-ND; RoHS: RoHS Compliant; Category: Integrated Circuits (ICs); Stock 1: 5227; Pricing 1: 1=2.6, 10=2.334, 100=1.8725, 500=1.539, 1000=1.06875 (USD); Packaging: Cut Tape (CT); -3db Bandwidth: -; Operating Temperature: -40°C ~ 125°C; Mounting Type: Surface Mount; Package / Case: SC-74A, SOT-753; Supplier Device Package: SOT-23-5; ComponentLink1URL: http://www.ti.com/lit/ds/symlink/opa333.pdf; ComponentLink1Description: http://www.ti.com/lit/ds/symlink/opa333.pdf; Value: OPA333AIDBVT
footprint SOT95P245X145-5L (SOT23, 5-Leads, Body 3.1x2.6mm (max), Pitch 0.95mm, IPC High Density)
pins: 1 OUT, 2 GND, 3 +, 4 -, 5 VCC

## OPA1655DBVR
designator U?
IC OPAMP Z RRO SOT23-5 Ultra Low Noise, Low Distortion, FET Input; Manufacturer: Texas Instruments; Manufacturer Part Number: OPA1655DBVR; Value: OPA1655DBVR
footprint SOT23-5 (SOT23, 5-Leads, Body 3.1x2.6mm (max), Pitch 0.95mm, IPC High Density)
pins: 1 OUT, 2 GND, 3 +, 4 -, 5 VCC

## PRTR5V0U2X,215
designator U?
TVS DIODE 5.5VWM SOT143B; Manufacturer: NXP Semiconductors; Bidirectional Channels: 2; Voltage - Reverse Standoff (Typ): 5.5V (Max); Voltage - Breakdown (Min): 6V; Power Line Protection: Yes; Capacitance @ Frequency: 1pF @ 1MHz; Supplier 1: Digi-Key; Supplier Part Number 1: 568-4140-1-ND; Manufacturer Part Number: PRTR5V0U2X,215; RoHS: RoHS Compliant; Category: Circuit Protection; Stock: 11734; Pricing: 1=0.57, 10=0.477, 25=0.418, 100=0.3578, 250=0.31036, 500=0.26286, 1000=0.20265 (USD); Packaging: Cut Tape (CT); Type: Steering (Rail to Rail); Unidirectional Channels: -; Voltage - Clamping (Max) @ Ipp: -; Current - Peak Pulse (10/1000µs): -; Power - Peak Pulse: -; Applications: General Purpose; Operating Temperature: -40°C ~ 85°C (TA); Mounting Type: Surface Mount; Package / Case: TO-253-4, TO-253AA; Supplier Device Package: SOT-143B; ComponentLink1URL: http://www.nxp.com/documents/data_sheet/PRTR5V0U2X.pdf; ComponentLink1Description: http://www.nxp.com/documents/data_sheet/PRTR5V0U2X.pdf; Value: PRTR5V0U2X,215
footprint SOT143B
pins: 1 GND, 2 IO1, 3 IO2, 4 VCC
1 alternate drawing of the same symbol

## R
designator R?, comment 22
1k; Value: 1k; ComponentLink1URL: http://industrial.panasonic.com/www-cgi/jvcr13pz.cgi?E+PZ+3+AOA0002+ERJ3EKF10R0V+7+WW; ComponentLink1Description: http://industrial.panasonic.com/www-cgi/jvcr13pz.cgi?E+PZ+3+AOA0002+ERJ3EKF10R0V+7+WW
footprint R0603 (0603 Generic)
footprint R0603_0.55MM_HD (Resistor 0603 High Density)
footprint R0603_0.55MM_MD (Resistor 0603 Medium Density)
footprint R0603_0.55MM_LD (Resistor 0603 Low Density)
footprint R0805_0.65MM_HD (Resistor 0805 High Density)
footprint R0805_0.65MM_MD (Resistor 0805 Medium Density)
footprint R0805_0.65MM_LD (Resistor 0805 Low Density)
pins: 1, 2

## R0201-0R
designator R?, comment 0R
Resistor, ±5%, 0.05W; Part Number: R0201-0R; Manufacturer: N.A.; Part number IPS: 00000003245; Part number NEMS: 100100001; Pad Count: 2; Note: Chip Res 5%; Component Status: Active; PartId: 100100001; Component Class: Resistors; Author: rsk; Manufacturer Part Number: N.A.; ComponentLink1URL: N.A.; ComponentLink1Description: Datasheet; ComponentLink2URL: N.A.; ComponentLink2Description: Supplier link; HelpURL: N.A.; Footprint Doc: 0201; LatestRevisionDate: 2017-11-09; Published: 2014-11-13; Value: 0R; Supplier 1: N.A.; Supplier Part Number 1: N.A.; Supplier 2: N.A.; Supplier Part Number 2: N.A.; Artikkelnr Noca: N.A.; Part number Norautron: N.A.
footprint RESC0603X03L_C (Chip Resistor, 2-Leads, Body 0.6x0.3mm, IPC High Density)
pins: 1, 2

## RES0603
designator R??, comment Resistance (Ohms): 511k  (hidden comment: GENERIC 0603 RESISTOR NC)
footprint RESC1608X06N (Chip Resistor, 2-Leads, Body 1.60x0.85mm, IPC Medium Density)
pins: 1, 2

## RT_SUPER_C
designator U?
Super Monkey Rev C
footprint RT_SUPER_C
pins: 1 VREF, 2 PIO0_6____ADC0_8, 3 PIO0_2____FC0_RXD, 4 PIO0_1____FC0_TXD, 5 PIO0_0____FC0_CLK, 6 PIO0_3____FC0_SSEL0, 7 PIO0_4____FC0_SSEL1, 8 PIO0_7____FC1_CLK, 9 PIO0_10____FC1_SSEL0, 10 PIO0_9____FC1_RXD, 11 PIO0_8____FC1_TXD, 12 PIO0_11____FC1_SSEL1, 13 PIO1_11__HS_SPI_SCK__FS0B_DATA0, 14 PIO1_12__HS_SPI_MISO__FS0B_DATA1, 15 PIO1_13___HS_SPI_MOSI__FS0B_DATA2, 16 PIO1_14__HS_SPI_SSEL0__FS0B_DATA3, 17 PIO1_15____ISP0, 18 PIO1_16____ISP1, 19 PIO1_17____ISP2, 20 PIO1_29__FLEXSPI0B_CLK, 21 PIO2_20__PDM_DATA01, 22 PIO2_16__PDM_CLK01, 23 PIO2_21__PDM_DATA23, 24 PIO2_17__PDM_CLK23__FS0B_DATA4, 25 PIO2_22__PDM_DATA45__FS0B_DATA6, 26 PIO2_18__PDM_CLK45__FS0B_DATA5, 27 PIO2_23__PDM_DATA67__FS0B_DATA7, 28 PIO2_19__PDM_CLK67_FLEXSPI0B_CS, 29 SD_CMD, 30 SD_D0, 31 SD_D1, 32 SD_D2, 33 SD_D3, 34 SD_CLK, 35 PIO2_10____SD_RESET_N, 36 PIO2_9____SD_DETECT_N, 37 PIO2_4, 38 PIO2_5, 39 PIO2_6, 40 I3C0_SDA, 41 I3C0_SCL, 42 PIO1_5____FC5_RXD, 43 DM_MCU, 44 PIO1_6____FC5_SSEL0, 45 DP_MCU, 46 PIO1_4____FC5_TXD, 47 PIO1_3____FC5_SCK, 48 PIO1_10____MCLK, 49 RST_3V3, 50 +3v3, 51 TEMP_SENSE, 52 PMIC_ON, 53 +VBATT_BU, 54 GND, 55 +5vUSB, 56 +VBATT, 57 +VIN, 58 PIO0_17____FC2_SSEL0, 59 PIO0_16____FC2_SDA, 60 PIO0_18____FC2_SSEL1, 61 PIO0_15____FC2_WS, 62 PIO0_14____FC2_CLK, 63 PIO1_0____FC4_SSEL1, 64 PIO0_28____FC4_CLK, 65 PIO0_30____FC4_SDA, 66 PIO0_31____FC4_SSEL0, 67 PIO0_29____FC4_WS, 68 PIO0_24____FC3_SSEL0, 69 PIO0_25____FC3_SSEL1, 70 PIO0_23____FC3_SDA, 71 PIO0_22____FC3_WS, 72 PIO0_21____FC3_CLK, 73 PIO1_8____ADC0_4, 74 PIO0_12____ADC0_1, 75 PIO0_27____ADC0_3, 76 PIO1_9____ADC0_12, M MOUNT